# Altium footprint library HRS_FH63S-30S-0.5SH.PcbLib: 1 footprints
Each footprint in its own frame and in the unit in brackets; x right, y up, seen from the top. Pads: shape width x height; smd on the part's side, far side on the other; paste and mask are expansions set on the pad; w line width, h text height; cw(c..) or ccw(c..) is an arc to the next point about the centre after c.
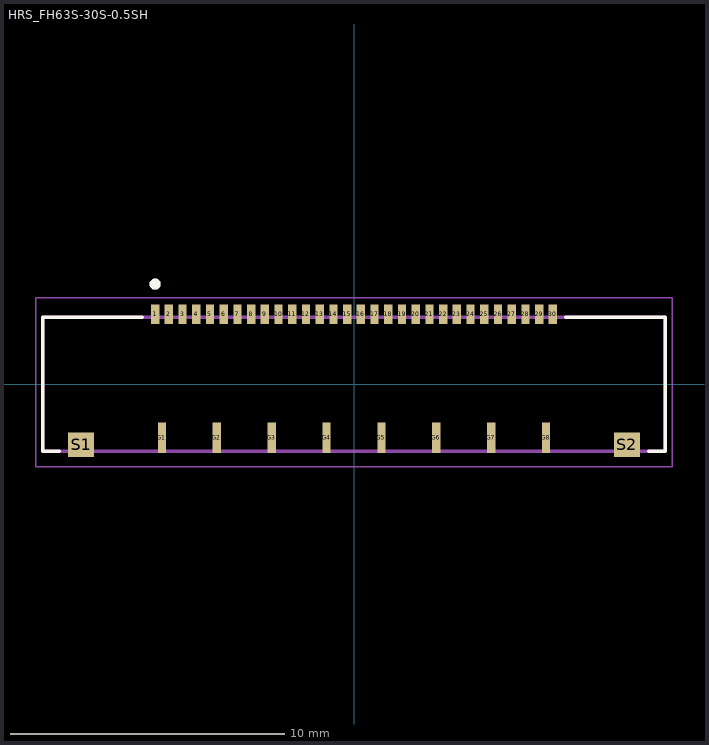
[diagram p0: the footprint, top view; thin cyan lines are the x and y axes]

## HRS_FH63S-30S-0.5SH [mm]
pads (40):
  rect 0.3x0.7 smd paste-1 mask+0.05: 1(-7.25,2.55) 2(-6.75,2.55) 3(-6.25,2.55) 4(-5.75,2.55) 5(-5.25,2.55) 6(-4.75,2.55) 7(-4.25,2.55) 8(-3.75,2.55) 9(-3.25,2.55) 10(-2.75,2.55) 11(-2.25,2.55) 12(-1.75,2.55) 13(-1.25,2.55) 14(-0.75,2.55) 15(-0.25,2.55) 16(0.25,2.55) 17(0.75,2.55) 18(1.25,2.55) 19(1.75,2.55) 20(2.25,2.55) 21(2.75,2.55) 22(3.25,2.55) 23(3.75,2.55) 24(4.25,2.55) 25(4.75,2.55) 26(5.25,2.55) 27(5.75,2.55) 28(6.25,2.55) 29(6.75,2.55) 30(7.25,2.55)
  rect 0.3x1.1 smd paste-2: G1(-7,-1.95) G2(-5,-1.95) G3(-3,-1.95) G4(-1,-1.95) G5(1,-1.95) G6(3,-1.95) G7(5,-1.95) G8(7,-1.95)
  rect 0.95x0.9 smd paste-1: S1(-9.95,-2.2) S2(9.95,-2.2)
Top Overlay:
  circle w0.2: c-7.25,3.65 r0.1
  lines w0.127: -10.745,-2.45 -11.35,-2.45 -11.35,2.45 -7.72,2.45 ; 7.72,2.45 11.35,2.45 11.35,-2.45 10.745,-2.45
Top Paste:
  drawing of 40 lines, arcs and shapes, not listed
Mechanical 13:
  circle w0.2: c-7.25,3.65 r0.1
  lines w0.127: -11.35,-2.45 -11.35,2.45 11.35,2.45 11.35,-2.45 -11.35,-2.45
Mechanical 15:
  lines w0.05: -11.6,-3 -11.6,3.15 11.6,3.15 11.6,-3 -11.6,-3